# Altium footprint library CONN_HDR_2.54MM_ST_SMD.PcbLib: 47 footprints (part 1 of 3)
Each footprint in its own frame and in the unit in brackets; x right, y up, seen from the top. Pads: shape width x height; smd on the part's side, far side on the other; paste and mask are expansions set on the pad; w line width, h text height; cw(c..) or ccw(c..) is an arc to the next point about the centre after c.
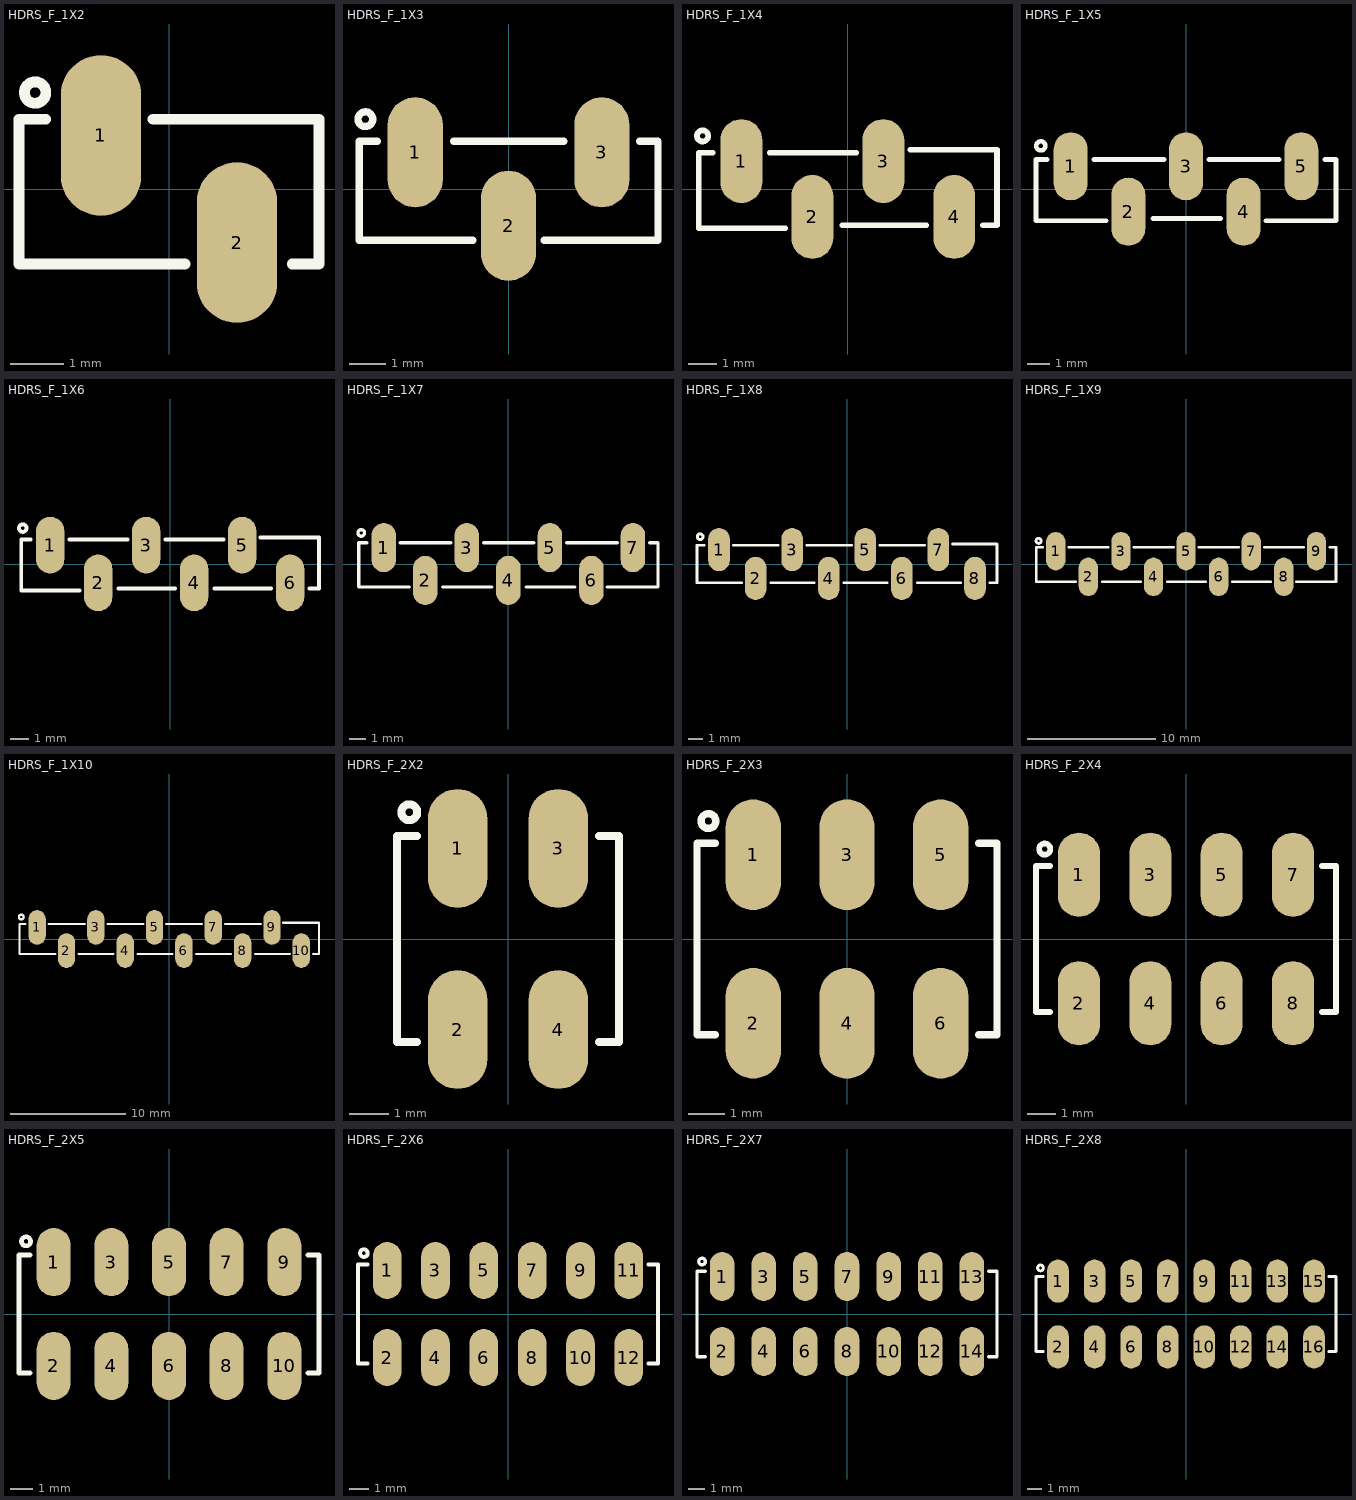
[diagram p0: the footprints below, top view; thin cyan lines are the x and y axes]

## HDRS_F_1X2 [mm] "HEADER, 2.54mm pitch, straight, SMD"
pads (2):
  oval 1.5x3 smd: 1(-1.27,1) 2(1.27,-1)
Top Overlay:
  circle w0.2: c-2.5,1.8 r0.2
  lines w0.2: -2.3,1.3 -2.8,1.3 -2.8,-1.4 0.3,-1.4 ; -0.3,1.3 2.8,1.3 2.8,-1.4 2.3,-1.4
3D body "BG125-02-A-1-1-0440-N-C.stp": height 5, standoff 0, extent -2.79,-2.2 2.79,2.2

## HDRS_F_1X3 [mm] "HEADER, 2.54mm pitch, straight, SMD"
pads (3):
  oval 1.5x3 smd: 1(-2.54,1) 2(0,-1) 3(2.54,1)
Top Overlay:
  circle w0.2: c-3.9,1.9 r0.2
  lines w0.2: -3.57,1.3 -4.07,1.3 -4.07,-1.4 -0.97,-1.4 ; -1.5,1.3 1.5,1.3 ; 0.97,-1.4 4.07,-1.4 4.07,1.3 3.57,1.3
3D body "BG125-03-A-1-1-0440-N-C.stp": height 5, standoff 0, extent -4.06,-2.2 4.06,2.2

## HDRS_F_1X4 [mm] "HEADER, 2.54mm pitch, straight, SMD"
pads (4):
  oval 1.5x3 smd: 1(-3.81,1) 2(-1.27,-1) 3(1.27,1) 4(3.81,-1)
Top Overlay:
  circle w0.2: c-5.2,1.9 r0.2
  lines w0.2: -4.84,1.3 -5.34,1.3 -5.34,-1.4 -2.24,-1.4 ; -2.8,1.3 0.3,1.3 ; -0.2,-1.3 2.8,-1.3 ; 2.24,1.4 5.34,1.4 5.34,-1.3 4.84,-1.3
3D body "BG125-04-A-1-1-0440-N-C.stp": height 5, standoff 0, extent -5.33,-2.2 5.33,2.2

## HDRS_F_1X5 [mm] "HEADER, 2.54mm pitch, straight, SMD"
pads (5):
  oval 1.5x3 smd: 1(-5.08,1) 2(-2.54,-1) 3(0,1) 4(2.54,-1) 5(5.08,1)
Top Overlay:
  circle w0.2: c-6.4,1.9 r0.2
  lines w0.2: -6.11,1.3 -6.61,1.3 -6.61,-1.4 -3.51,-1.4 ; -4.07,1.3 -0.97,1.3 ; -1.47,-1.3 1.53,-1.3 ; 1.01,1.3 4.11,1.3 ; 3.51,-1.4 6.61,-1.4 6.61,1.3 6.11,1.3
3D body "BG125-05-A-1-1-0440-N-C.stp": height 5, standoff 0, extent -6.6,-2.2 6.6,2.2

## HDRS_F_1X6 [mm] "HEADER, 2.54mm pitch, straight, SMD"
pads (6):
  oval 1.5x3 smd: 1(-6.35,1) 2(-3.81,-1) 3(-1.27,1) 4(1.27,-1) 5(3.81,1) 6(6.35,-1)
Top Overlay:
  circle w0.2: c-7.8,1.9 r0.2
  lines w0.2: -7.38,1.3 -7.88,1.3 -7.88,-1.4 -4.78,-1.4 ; -5.34,1.3 -2.24,1.3 ; -2.74,-1.3 0.26,-1.3 ; -0.26,1.3 2.84,1.3 ; 2.34,-1.3 5.34,-1.3 ; 4.78,1.4 7.88,1.4 7.88,-1.3 7.38,-1.3
3D body "BG125-06-A-1-1-0440-N-C.stp": height 5, standoff 0, extent -7.87,-2.2 7.87,2.2

## HDRS_F_1X7 [mm] "HEADER, 2.54mm pitch, straight, SMD"
pads (7):
  oval 1.5x3 smd: 1(-7.62,1) 2(-5.08,-1) 3(-2.54,1) 4(0,-1) 5(2.54,1) 6(5.08,-1) 7(7.62,1)
Top Overlay:
  circle w0.2: c-9,1.9 r0.2
  lines w0.2: -8.65,1.3 -9.15,1.3 -9.15,-1.4 -6.05,-1.4 ; -6.61,1.3 -3.51,1.3 ; -4.01,-1.4 -1.01,-1.4 ; -1.53,1.3 1.57,1.3 ; 1.07,-1.4 4.07,-1.4 ; 3.55,1.3 6.65,1.3 ; 6.05,-1.4 9.15,-1.4 9.15,1.3 8.65,1.3
3D body "BG125-07-A-1-1-0440-N-C.stp": height 5, standoff 0, extent -9.14,-2.2 9.14,2.2

## HDRS_F_1X8 [mm] "HEADER, 2.54mm pitch, straight, SMD"
pads (8):
  oval 1.5x3 smd: 1(-8.89,1) 2(-6.35,-1) 3(-3.81,1) 4(-1.27,-1) 5(1.27,1) 6(3.81,-1) 7(6.35,1) 8(8.89,-1)
Top Overlay:
  circle w0.2: c-10.2,1.9 r0.2
  lines w0.2: -9.92,1.3 -10.42,1.3 -10.42,-1.3 -7.32,-1.3 ; -7.88,1.3 -4.78,1.3 ; -5.28,-1.3 -2.28,-1.3 ; -2.8,1.3 0.3,1.3 ; -0.2,-1.3 2.8,-1.3 ; 2.28,1.3 5.38,1.3 ; 4.88,-1.3 7.88,-1.3 ; 7.32,1.4 10.42,1.4 10.42,-1.3 9.92,-1.3
3D body "BG125-08-A-1-1-0440-N-C.stp": height 5, standoff 0, extent -10.41,-2.2 10.41,2.2

## HDRS_F_1X9 [mm] "HEADER, 2.54mm pitch, straight, SMD"
pads (9):
  oval 1.5x3 smd: 1(-10.16,1) 2(-7.62,-1) 3(-5.08,1) 4(-2.54,-1) 5(0,1) 6(2.54,-1) 7(5.08,1) 8(7.62,-1) 9(10.16,1)
Top Overlay:
  circle w0.2: c-11.5,1.8 r0.2
  lines w0.2: -11.19,1.3 -11.69,1.3 -11.69,-1.4 -8.59,-1.4 ; -9.15,1.3 -6.05,1.3 ; -6.55,-1.4 -3.55,-1.4 ; -4.07,1.3 -0.97,1.3 ; -1.47,-1.4 1.53,-1.4 ; 1.01,1.3 4.11,1.3 ; 3.61,-1.4 6.61,-1.4 ; 6.09,1.3 9.19,1.3 ; 8.59,-1.4 11.69,-1.4 11.69,1.3 11.19,1.3
3D body "BG125-09-A-1-1-0440-N-C.stp": height 5, standoff 0, extent -11.68,-2.2 11.68,2.2

## HDRS_F_1X10 [mm] "HEADER, 2.54mm pitch, straight, SMD"
pads (10):
  oval 1.5x3 smd: 1(-11.43,1) 2(-8.89,-1) 3(-6.35,1) 4(-3.81,-1) 5(-1.27,1) 6(1.27,-1) 7(3.81,1) 8(6.35,-1) 9(8.89,1) 10(11.43,-1)
Top Overlay:
  circle w0.2: c-12.8,1.9 r0.2
  lines w0.2: -12.46,1.3 -12.96,1.3 -12.96,-1.3 -9.86,-1.3 ; -10.42,1.3 -7.32,1.3 ; -7.82,-1.3 -4.82,-1.3 ; -5.34,1.3 -2.24,1.3 ; -2.74,-1.3 0.26,-1.3 ; -0.26,1.3 2.84,1.3 ; 2.34,-1.3 5.34,-1.3 ; 4.82,1.3 7.92,1.3 ; 7.42,-1.3 10.42,-1.3 ; 9.86,1.4 12.96,1.4 12.96,-1.3 12.46,-1.3
3D body "BG125-10-A-1-1-0440-N-C.stp": height 5, standoff 0, extent -12.95,-2.2 12.95,2.2

## HDRS_F_2X2 [mm] "HEADER, 2.54mm pitch, straight, SMD"
pads (4):
  oval 1.5x3 smd: 1(-1.27,2.286) 2(-1.27,-2.286) 3(1.27,2.286) 4(1.27,-2.286)
Top Overlay:
  circle w0.2: c-2.49,3.2 r0.2
  lines w0.2: -2.3,-2.6 -2.8,-2.6 -2.8,2.6 -2.3,2.6 ; 2.3,-2.6 2.8,-2.6 2.8,2.6 2.3,2.6
3D body "BG120-04-A-0-N-C.stp": height 5, standoff 0, extent -2.79,-3.5 2.79,3.5

## HDRS_F_2X3 [mm] "HEADER, 2.54mm pitch, straight, SMD"
pads (6):
  oval 1.5x3 smd: 1(-2.54,2.286) 2(-2.54,-2.286) 3(0,2.286) 4(0,-2.286) 5(2.54,2.286) 6(2.54,-2.286)
Top Overlay:
  circle w0.2: c-3.76,3.2 r0.2
  lines w0.2: -3.57,-2.6 -4.07,-2.6 -4.07,2.6 -3.57,2.6 ; 3.57,-2.6 4.07,-2.6 4.07,2.6 3.57,2.6
3D body "BG120-06-A-0-N-C.stp": height 5, standoff 0, extent -4.06,-3.5 4.06,3.5

## HDRS_F_2X4 [mm] "HEADER, 2.54mm pitch, straight, SMD, TSM-105-01-X-DV-A"
pads (8):
  oval 1.5x3 smd: 1(-3.81,2.286) 2(-3.81,-2.286) 3(-1.27,2.286) 4(-1.27,-2.286) 5(1.27,2.286) 6(1.27,-2.286) 7(3.81,2.286) 8(3.81,-2.286)
Top Overlay:
  circle w0.2: c-5.03,3.2 r0.2
  lines w0.2: -4.84,-2.6 -5.34,-2.6 -5.34,2.6 -4.84,2.6 ; 4.84,-2.6 5.34,-2.6 5.34,2.6 4.84,2.6
3D body "BG120-08-A-0-N-C.stp": height 5, standoff 0, extent -5.33,-3.5 5.33,3.5

## HDRS_F_2X5 [mm] "HEADER, 2.54mm pitch, straight, SMD, TSM-105-01-X-DV-A"
pads (10):
  oval 1.5x3 smd: 1(-5.08,2.286) 2(-5.08,-2.286) 3(-2.54,2.286) 4(-2.54,-2.286) 5(0,2.286) 6(0,-2.286) 7(2.54,2.286) 8(2.54,-2.286) 9(5.08,2.286) 10(5.08,-2.286)
Top Overlay:
  circle w0.2: c-6.3,3.2 r0.2
  lines w0.2: -6.11,-2.6 -6.61,-2.6 -6.61,2.6 -6.11,2.6 ; 6.11,-2.6 6.61,-2.6 6.61,2.6 6.11,2.6
3D body "BG120-10-A-0-N-C.stp": height 5, standoff 0, extent -6.6,-3.5 6.6,3.5

## HDRS_F_2X6 [mm] "HEADER, 2.54mm pitch, straight, SMD"
pads (12):
  oval 1.5x3 smd: 1(-6.35,2.286) 2(-6.35,-2.286) 3(-3.81,2.286) 4(-3.81,-2.286) 5(-1.27,2.286) 6(-1.27,-2.286) 7(1.27,2.286) 8(1.27,-2.286) 9(3.81,2.286) 10(3.81,-2.286) 11(6.35,2.286) 12(6.35,-2.286)
Top Overlay:
  circle w0.2: c-7.57,3.2 r0.2
  lines w0.2: -7.38,-2.6 -7.88,-2.6 -7.88,2.6 -7.38,2.6 ; 7.38,-2.6 7.88,-2.6 7.88,2.6 7.38,2.6
3D body "BG120-12-A-0-N-C.stp": height 5, standoff 0, extent -7.87,-3.5 7.87,3.5

## HDRS_F_2X7 [mm] "HEADER, 2.54mm pitch, straight, SMD"
pads (14):
  oval 1.5x3 smd: 1(-7.62,2.286) 2(-7.62,-2.286) 3(-5.08,2.286) 4(-5.08,-2.286) 5(-2.54,2.286) 6(-2.54,-2.286) 7(0,2.286) 8(0,-2.286) 9(2.54,2.286) 10(2.54,-2.286) 11(5.08,2.286) 12(5.08,-2.286) 13(7.62,2.286) 14(7.62,-2.286)
Top Overlay:
  circle w0.2: c-8.84,3.2 r0.2
  lines w0.2: -8.65,-2.6 -9.15,-2.6 -9.15,2.6 -8.65,2.6 ; 8.65,-2.6 9.15,-2.6 9.15,2.6 8.65,2.6
3D body "BG120-14-A-0-N-C.stp": height 5, standoff 0, extent -9.14,-3.5 9.14,3.5

## HDRS_F_2X8 [mm] "HEADER, 2.54mm pitch, straight, SMD"
pads (16):
  oval 1.5x3 smd: 1(-8.89,2.286) 2(-8.89,-2.286) 3(-6.35,2.286) 4(-6.35,-2.286) 5(-3.81,2.286) 6(-3.81,-2.286) 7(-1.27,2.286) 8(-1.27,-2.286) 9(1.27,2.286) 10(1.27,-2.286) 11(3.81,2.286) 12(3.81,-2.286) 13(6.35,2.286) 14(6.35,-2.286) 15(8.89,2.286) 16(8.89,-2.286)
Top Overlay:
  circle w0.2: c-10.11,3.2 r0.2
  lines w0.2: -9.92,-2.6 -10.42,-2.6 -10.42,2.6 -9.92,2.6 ; 9.92,-2.6 10.42,-2.6 10.42,2.6 9.92,2.6
3D body "BG120-16-A-0-N-C.stp": height 5, standoff 0, extent -10.41,-3.5 10.41,3.5